# EAGLE library part TINY-SLIDE (library switch-jlb)
TINY SWITCH ON - MOM Source: http://www2.produktinfo.conrad.com/datenblaetter/700000-724999/705152-da-01-de-Subminiaturschalter_TL_36WO.pdf
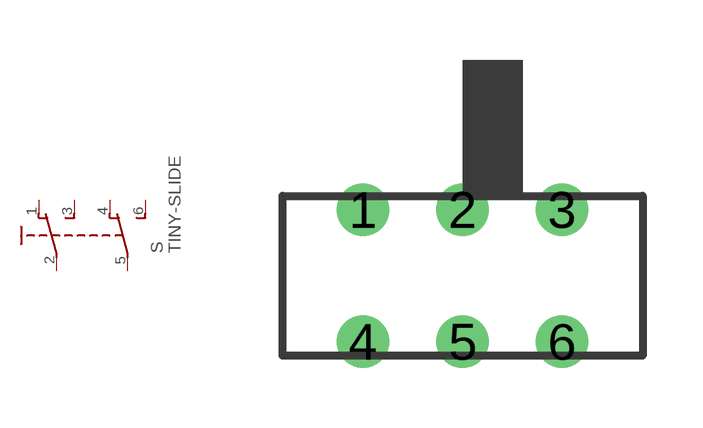
[diagram p0: symbol with the pads of TINY-SLIDE; footprint TINY-SLIDE]

Designator prefix S

## TINY-SLIDE  [TINY-SLIDE]
1  O  pas
2  P  pas
3  S  pas
4  O1  pas
5  P1  pas
6  S1  pas

## Footprint TINY-SLIDE (pad centres in mm)
TINY SWITCH Source: http://www2.produktinfo.conrad.com/datenblaetter/700000-724999/705152-da-01-de-Subminiaturschalter_TL_36YO.pdf
drill 0.8: 1 -2.489,1.65; 2 0,1.65; 3 2.489,1.65; 4 -2.489,-1.65; 5 0,-1.65; 6 2.489,-1.65